# Altium footprint library ELEC(8.0X6.5)-AV.PcbLib: 1 footprints
Each footprint in its own frame and in the unit in brackets; x right, y up, seen from the top. Pads: shape width x height; smd on the part's side, far side on the other; paste and mask are expansions set on the pad; w line width, h text height; cw(c..) or ccw(c..) is an arc to the next point about the centre after c.
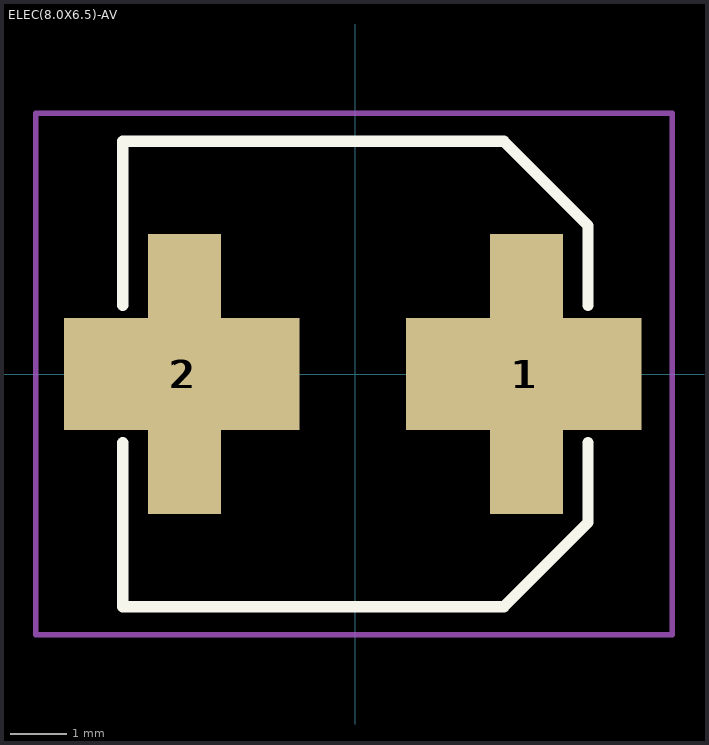
[diagram p0: the footprint, top view; thin cyan lines are the x and y axes]

## ELEC(8.0X6.5)-AV [mm]
pads (4):
  rect 4.2x2 smd: 1(3,0) 2(-3.1,0)
  rect 1.3x5 smd: 1(3.05,0) 2(-3.05,0)
Top Overlay:
  lines w0.2: -4.15,-1.225 -4.15,-4.15 2.65,-4.15 4.15,-2.65 4.15,-1.225 ; -4.15,1.225 -4.15,4.15 2.65,4.15 4.15,2.65 4.15,1.225
Top Courtyard:
  lines w0.1: -5.7,-1 -5.7,-4.65 ; -4.5,-4.65 -5.7,-4.65 ; 4.45,4.65 5.65,4.65 ; 5.65,1 5.65,4.65 ; -5.7,-4.65 5.65,-4.65 5.65,4.65 ; -5.7,-4.65 -5.7,4.65 5.65,4.65
3D body "step_temp.STEP": height 6.5, standoff 0, extent -4.5,-4.15 4.5,4.15